# Altium footprint library PBO-5C.PcbLib: 1 footprints
Each footprint in its own frame and in the unit in brackets; x right, y up, seen from the top. Pads: shape width x height; smd on the part's side, far side on the other; paste and mask are expansions set on the pad; w line width, h text height; cw(c..) or ccw(c..) is an arc to the next point about the centre after c.
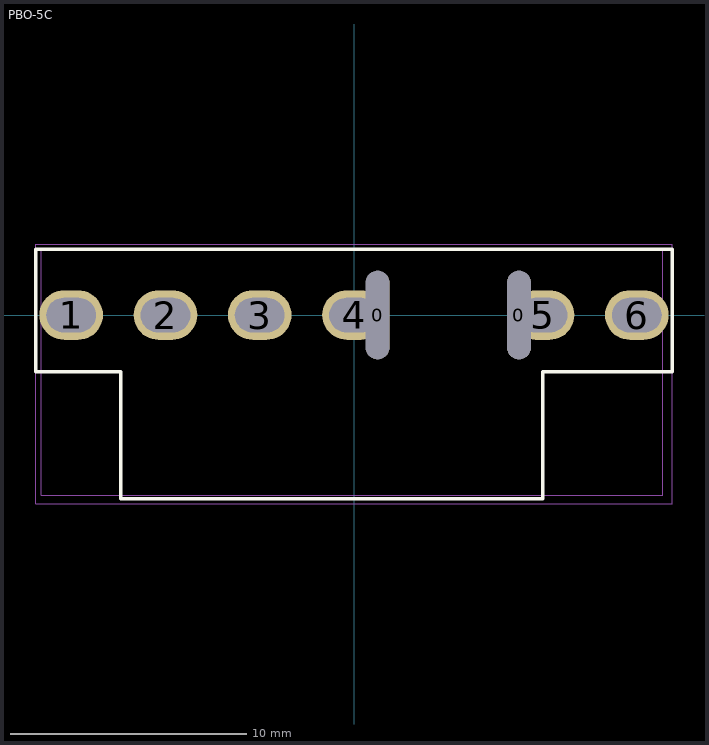
[diagram p0: the footprint, top view; thin cyan lines are the x and y axes]

## PBO-5C [mm]
pads (8):
  oval 1x3.75 hole 1 slot 3.75 at 90 deg: 0(1,0) 0(7,0)
  oval 2.7x2.1 hole 1.45 slot 2.1 at 0 deg: 1(-12,0) 2(-8,0) 3(-4,0) 4(0,0) 5(8,0) 6(12,0)
Top Overlay:
  lines w0.15: -13.5,-2.4 -9.9,-2.4 -9.9,-7.8 8,-7.8 8,-2.4 13.5,-2.4 13.5,2.8 -13.5,2.8 -13.5,-2.4
Top Assembly:
  lines w0.05: -13.275,-7.65 -13.275,2.8 13.1,2.8 13.1,-7.65 -13.275,-7.65
Top Courtyard:
  lines w0.05: -13.5,-8 -13.5,3 13.5,3 13.5,-8 -13.5,-8
3D body "CUI_PBO-5C-5.step": height 15.38, standoff -2.23, extent -13.284,-7.65 13.084,2.8